# EAGLE library part DT15-2P (library DT15-2P)
Deutsch DT15 Series, 5.46mm Pitch 2 Way 1 Row Straight PCB Header, Solder Termination Source: Datasheet <http://uk.rs-online.com/web/p/products/7242529>
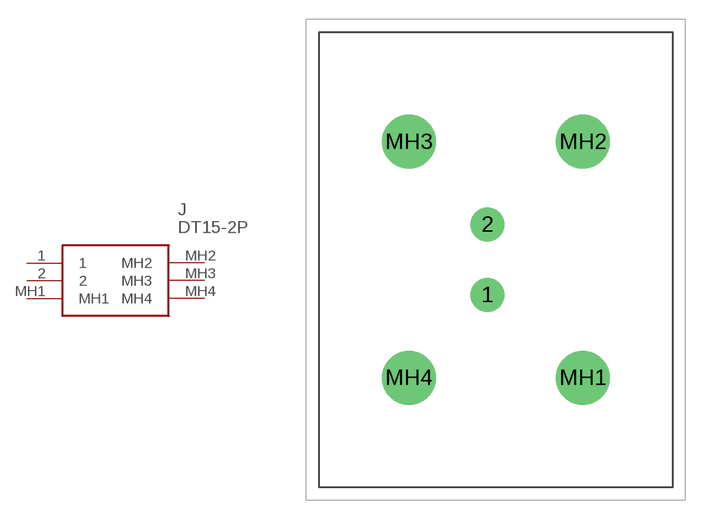
[diagram p0: symbol with the pads of DT152P; footprint DT152P]

Designator prefix J

## DT15-2P (Allied_Number: 70696153; Description: Deutsch DT15 Series, 5.46mm Pitch 2 Way 1 Row Straight PCB Header, Solder Termination; Height: 30.99mm; Manufacturer_Name: TE Connectivity; Manufacturer_Part_Number: DT15-2P; RS_Part_Number: 7242529; RS_Price-Stock: http://uk.rs-online.com/web/p/products/7242529)  [DT152P]
1  1
2  2
MH1  MH1
MH2  MH2
MH3  MH3
MH4  MH4

## Footprint DT152P (pad centres in mm)
DT15-2P-1
drill 1.77 pad 2.655: 1 0,0; 2 0,5.46
drill 2.79 pad 4.185: MH1 7.4,-6.43; MH2 7.4,11.88; MH3 -6.11,11.88; MH4 -6.11,-6.43